# Altium footprint library PCB - LEADED - SOP - ROHM HTSSOP-B28.PcbLib: 1 footprints
Each footprint in its own frame and in the unit in brackets; x right, y up, seen from the top. Pads: shape width x height; smd on the part's side, far side on the other; paste and mask are expansions set on the pad; w line width, h text height; cw(c..) or ccw(c..) is an arc to the next point about the centre after c.
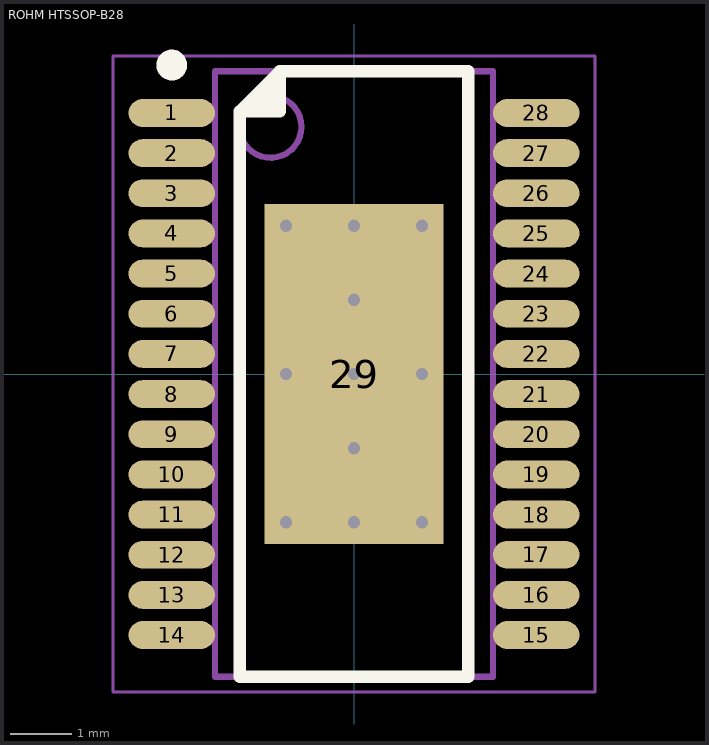
[diagram p0: the footprint, top view; thin cyan lines are the x and y axes]

## ROHM HTSSOP-B28 [mm] "HTSSOP, 28-Leads, Body 9.70x4.40mm, Pitch 0.65mm, Thermal Pad 5.50x2.90mm, IPC Medium Density"
height 1
pads (29):
  oval 1.4x0.45 smd: 1(-2.95,4.225) 2(-2.95,3.575) 3(-2.95,2.925) 4(-2.95,2.275) 5(-2.95,1.625) 6(-2.95,0.975) 7(-2.95,0.325) 8(-2.95,-0.325) 9(-2.95,-0.975) 10(-2.95,-1.625) 11(-2.95,-2.275) 12(-2.95,-2.925) 13(-2.95,-3.575) 14(-2.95,-4.225) 15(2.95,-4.225) 16(2.95,-3.575) 17(2.95,-2.925) 18(2.95,-2.275) 19(2.95,-1.625) 20(2.95,-0.975) 21(2.95,-0.325) 22(2.95,0.325) 23(2.95,0.975) 24(2.95,1.625) 25(2.95,2.275) 26(2.95,2.925) 27(2.95,3.575) 28(2.95,4.225)
  rect 2.9x5.5 smd paste-4 mask+0.102: 29(0,0)
via 0,-1.2 diameter 0.5 hole 0.2
via 0,1.2 diameter 0.5 hole 0.2
via 1.1,-2.4 diameter 0.5 hole 0.2
via 0,-2.4 diameter 0.5 hole 0.2
via -1.1,-2.4 diameter 0.5 hole 0.2
via 1.1,0 diameter 0.5 hole 0.2
via 0,0 diameter 0.5 hole 0.2
via -1.1,0 diameter 0.5 hole 0.2
via 1.1,2.4 diameter 0.5 hole 0.2
via 0,2.4 diameter 0.5 hole 0.2
via -1.1,2.4 diameter 0.5 hole 0.2
Top Overlay:
  circle w0.25: c-2.95,5 r0.125
  region: -1.2,4.9 -1.2,4.25 -1.85,4.25
  lines w0.2: -1.85,4.25 -1.2,4.9 ; -1.85,4.25 -1.85,-4.9 1.85,-4.9 1.85,4.9 -1.2,4.9 ; -1.85,4.25 -1.2,4.25 -1.2,4.9
Top Paste:
  rectangle: -0.2,-2.1 0.2,-1.5
  rectangle: -0.2,1.5 0.2,2.1
  rectangle: -0.2,-0.9 0.2,-0.3
  rectangle: -1.4,-1.1 -0.4,-0.3
  rectangle: 0.4,-1.1 1.4,-0.3
  rectangle: -0.2,0.3 0.2,0.9
  rectangle: -1.4,0.3 -0.4,1.1
  rectangle: 0.4,0.3 1.4,1.1
  region: 0.7,2.7 0.4,2.7 0.4,2.2 0.7,2.2
  rectangle: -0.7,2.2 -0.4,2.7
  region: 0.7,-2.2 0.4,-2.2 0.4,-2.7 0.7,-2.7
  rectangle: -0.7,-2.7 -0.4,-2.2
  region: 1.4,1.3 0.4,1.3 0.4,1.7 0.7,2 1.4,2
  region: -1.4,1.3 -0.4,1.3 -0.4,1.7 -0.7,2 -1.4,2
  region: 1.4,-1.3 0.4,-1.3 0.4,-1.7 0.7,-2 1.4,-2
  region: -1.4,-1.3 -0.4,-1.3 -0.4,-1.7 -0.7,-2 -1.4,-2
Top Solder:
  drawing of 60 lines, arcs and shapes, not listed
Mechanical 13:
  circle w0.1: c-1.35,4 r0.5
  lines w0.1: -2.25,-4.9 -2.25,4.9 2.25,4.9 2.25,-4.9 -2.25,-4.9
Mechanical 15:
  lines w0.05: -3.9,-5.15 -3.9,5.15 3.9,5.15 3.9,-5.15 -3.9,-5.15
Mechanical 2 (Mech9):
  lines w0.1: -0.5,0 0.5,0 ; 0,-0.5 0,0.5
3D body "ROHM HTSSOP-B28.step": height 1, standoff 0, extent -3.2,-4.9 3.2,4.9